# EAGLE library part NE555 (library common)
General purpose bipolar Timer
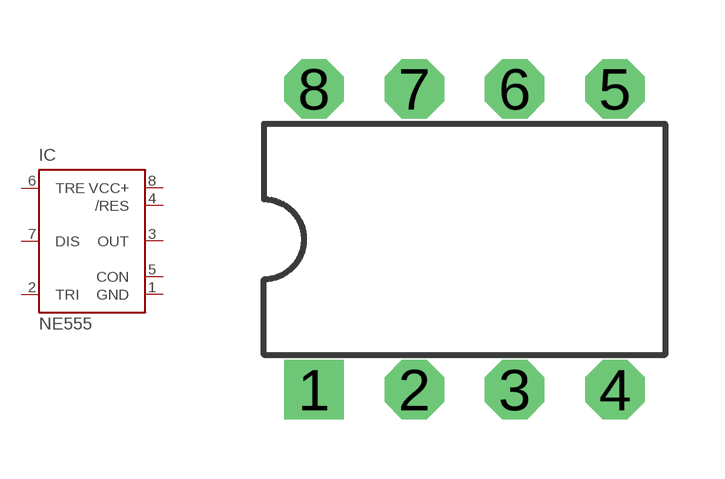
[diagram p0: symbol with the pads of DIL-08S; footprint DIL-08S]

Designator prefix IC

## NE555P  [DIL-08S]
1  GND  pwr
2  TRI  in
3  OUT  out
4  /RES  in
5  CON  in
6  TRE  in
7  DIS  in
8  VCC+  pwr

## Footprint DIL-08S (pad centres in mm)
Dual In Line Package
drill 1 square: 1 -3.81,-3.81
drill 1 octagon: 2 -1.27,-3.81; 3 1.27,-3.81; 4 3.81,-3.81; 5 3.81,3.81; 6 1.27,3.81; 7 -1.27,3.81; 8 -3.81,3.81